# EAGLE library part LM2575SX-5.0/NOPB (library eDNA)
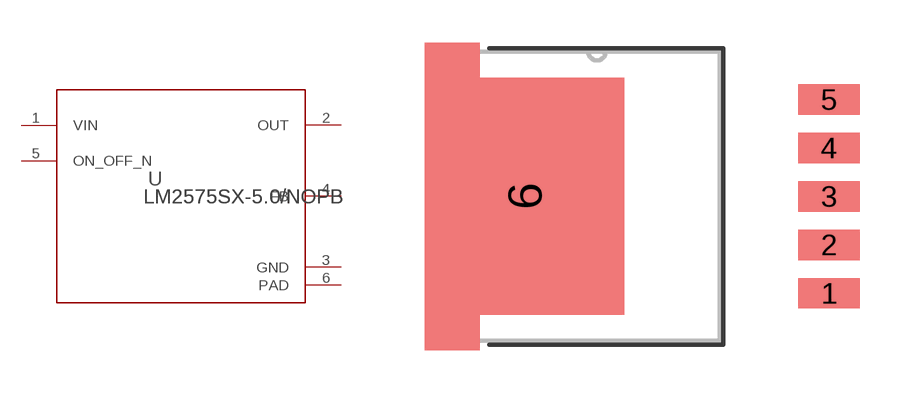
[diagram p5: symbol with the pads of KTT0005B; footprint KTT0005B]

Designator prefix U

## LM2575SX-5.0/NOPB (MANUFACTURER_PART_NUMBER: LM2575SX5.0NOPB; VENDOR: Texas Instruments)  [KTT0005B]
1  VIN  pwr
2  OUT  out
3  GND  pwr
4  FB  in
5  ON_OFF_N  in
6  PAD  pas

## Footprint KTT0005B (pad centres in mm)
smd 2.159 x 1.067: 1 8.153,-3.404; 2 8.153,-1.702; 3 8.153,0; 4 8.153,1.702; 5 8.153,3.404
smd 6.985 x 8.331: 6 -2.54,0